# EAGLE library part ACPL-844-300E (library ACPL-844-300E)
Broadcom, ACPL-844-300E AC Input Phototransistor Output Quad Optocoupler, Surface Mount, 16-Pin PDIP Source: Datasheet <http://www.avagotech.com/docs/AV01-0475EN>
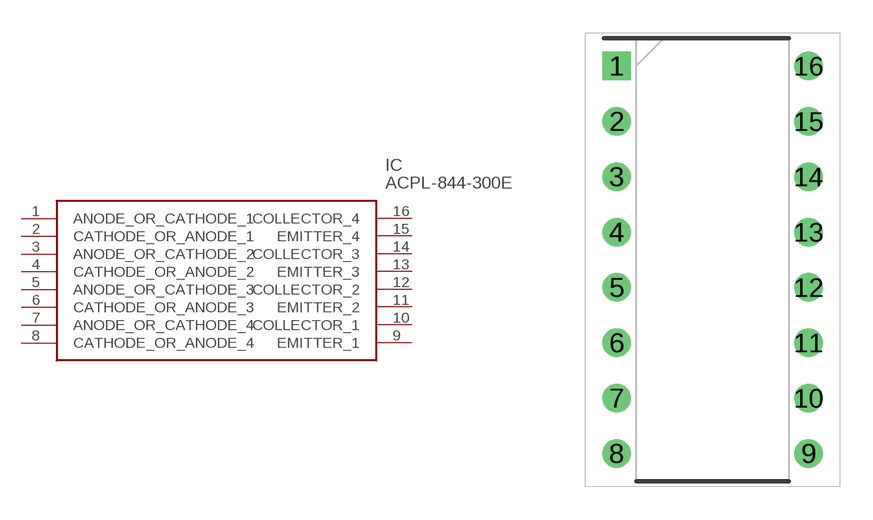
[diagram p0: symbol with the pads of DIP880W60P254L1984H450Q16N; footprint DIP880W60P254L1984H450Q16N]

Designator prefix IC

## ACPL-844-300E (Description: Broadcom, ACPL-844-300E AC Input Phototransistor Output Quad Optocoupler, Surface Mount, 16-Pin PDIP; Height: 4.5mm; Manufacturer_Name: Avago Technologies; Manufacturer_Part_Number: ACPL-844-300E; Mouser_Part_Number: 630-ACPL-844-300E; Mouser_Price-Stock: https://www.mouser.co.uk/ProductDetail/Broadcom-Avago/ACPL-844-300E?qs=RuhU64sK2%252BvgcKbLWHwX4Q%3D%3D)  [DIP880W60P254L1984H450Q16N]
1  ANODE_OR_CATHODE_1
2  CATHODE_OR_ANODE_1
3  ANODE_OR_CATHODE_2
4  CATHODE_OR_ANODE_2
5  ANODE_OR_CATHODE_3
6  CATHODE_OR_ANODE_3
7  ANODE_OR_CATHODE_4
8  CATHODE_OR_ANODE_4
9  EMITTER_1
10  COLLECTOR_1
11  EMITTER_2
12  COLLECTOR_2
13  EMITTER_3
14  COLLECTOR_3
15  EMITTER_4
16  COLLECTOR_4

## Footprint DIP880W60P254L1984H450Q16N (pad centres in mm)
dip16-
drill 0.8 pad 1.2 square: 1 -4.4,8.89
drill 0.8 pad 1.2: 2 -4.4,6.35; 3 -4.4,3.81; 4 -4.4,1.27; 5 -4.4,-1.27; 6 -4.4,-3.81; 7 -4.4,-6.35; 8 -4.4,-8.89; 9 4.4,-8.89; 10 4.4,-6.35; 11 4.4,-3.81; 12 4.4,-1.27; 13 4.4,1.27; 14 4.4,3.81; 15 4.4,6.35; 16 4.4,8.89